# Altium footprint library conector.PcbLib: 1 footprints
Each footprint in its own frame and in the unit in brackets; x right, y up, seen from the top. Pads: shape width x height; smd on the part's side, far side on the other; paste and mask are expansions set on the pad; w line width, h text height; cw(c..) or ccw(c..) is an arc to the next point about the centre after c.
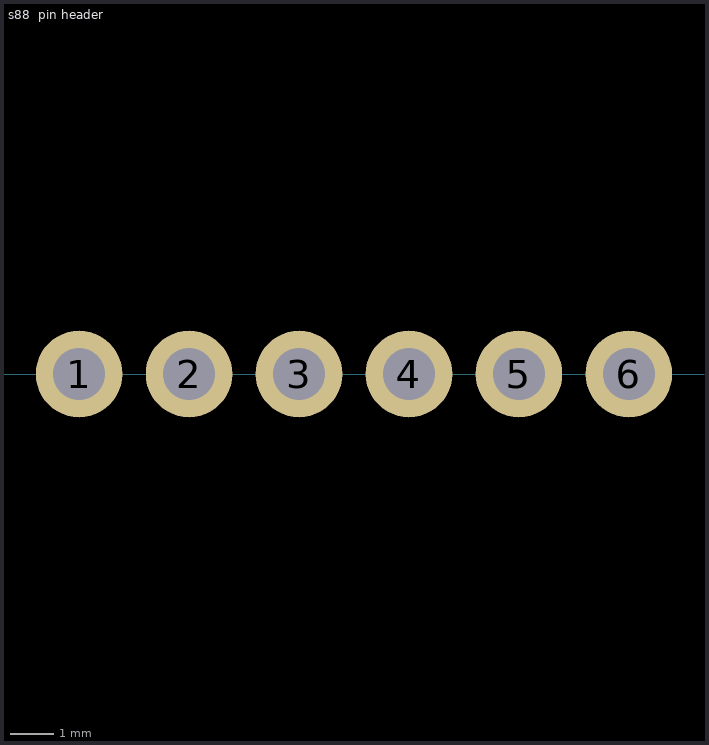
[diagram p0: the footprint, top view; thin cyan lines are the x and y axes]

## s88  pin header [mm]
pads (6):
  round 2 hole 1.2: 1(12.7,0) 2(15.24,0) 3(17.78,0) 4(20.32,0) 5(22.86,0) 6(25.4,0)
3D body "2pin.step": height 6.02, standoff -3.1, extent 11.42,-1.24 16.5,1.3
3D body "2pin.step": height 6.02, standoff -3.1, extent 16.52,-1.24 21.6,1.3
3D body "2pin.step": height 6.02, standoff -3.1, extent 21.56,-1.24 26.64,1.3